# Altium integrated library LIFT_DRIVER.IntLib: 31 symbols
Pins are listed as number, name and electrical type; pins without a type are passive.

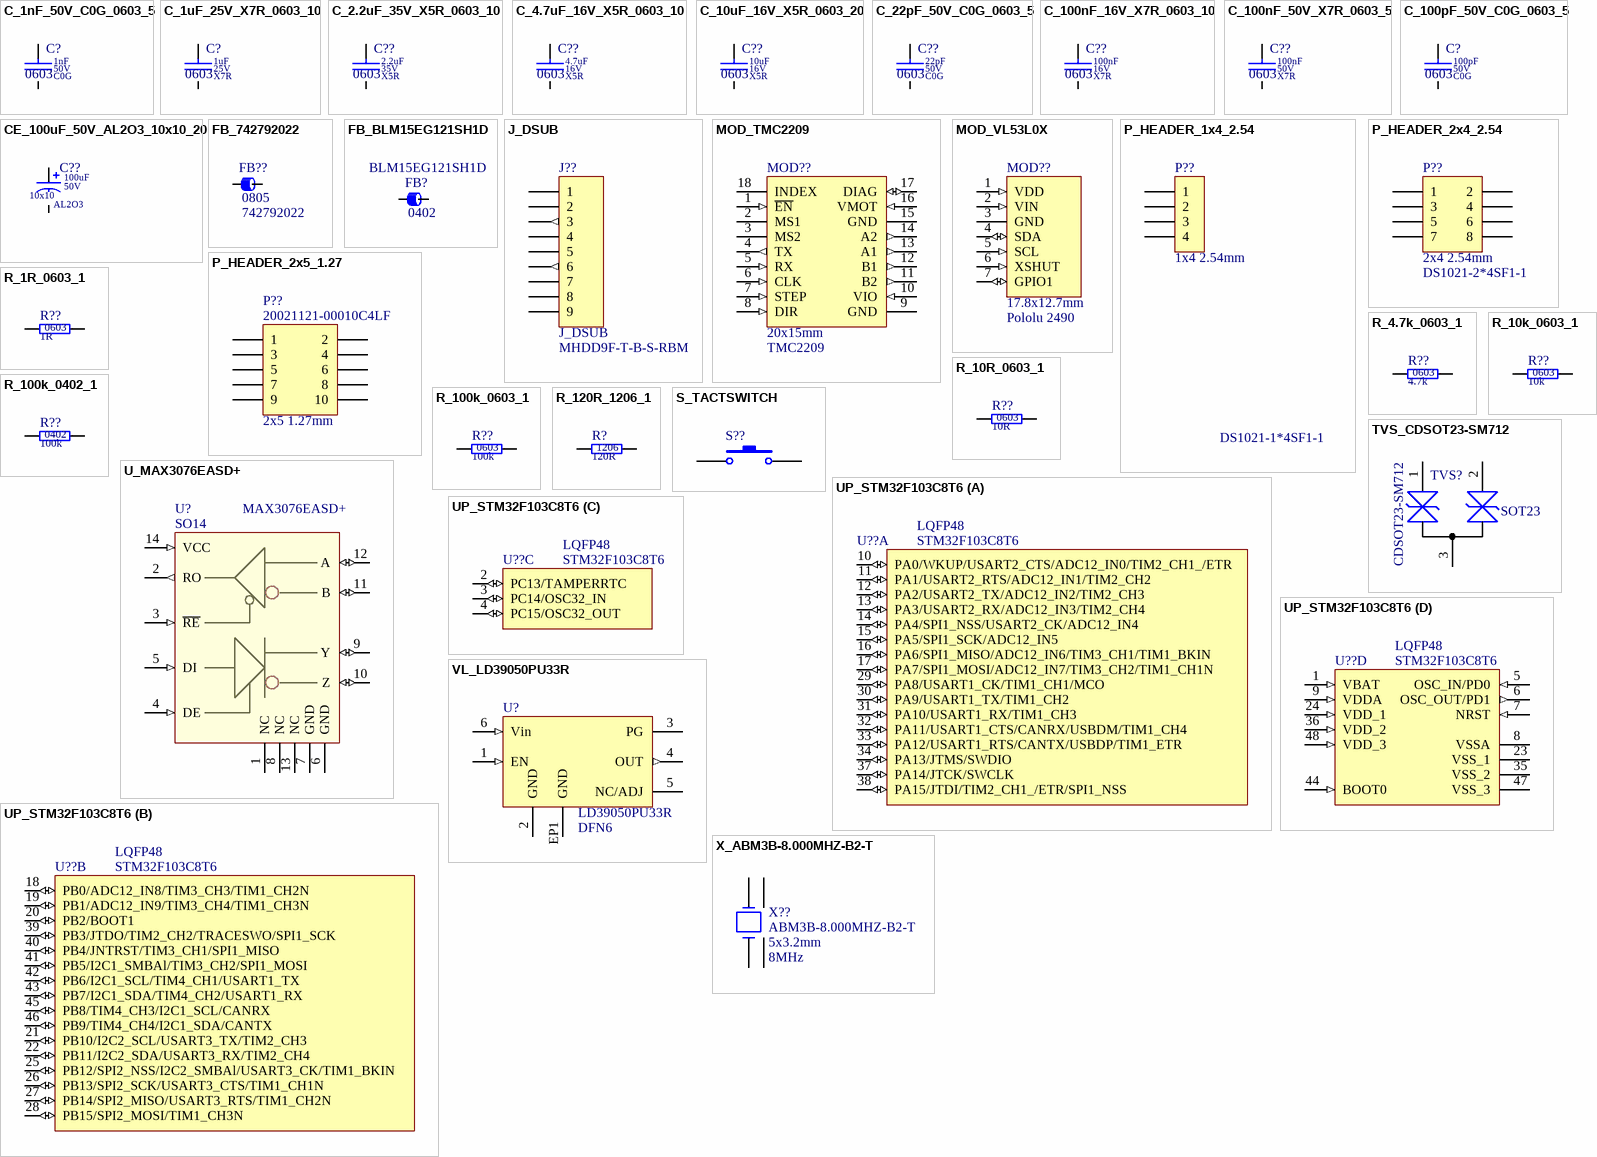
[diagram p0: symbols C_1nF_50V_C0G_0603_5 to X_ABM3B-8.000MHZ-B2-T]

## C_1nF_50V_C0G_0603_5
designator C?, comment value 1nF  Dielectric: C0G  Voltage: 50V  SCH_Footprint: 0603  (hidden comment: Ceramic C0G)
Capacitor; Part Number: C_1nF_50V_C0G_0603_5; Manufacturer: Samsung; Manufacturer Part Number: CL10C102JB8NNNC; Tolerance (%): 5; HelpURL: http://www.tme.eu/pl/Document/7da762c1dbaf553c64ad9c40d3603826/mlcc_samsung.pdf; Supplier 1: TME; Supplier Part Number 1: CL10C102JB8NNNC; Supplier 2: RS Components; Supplier 3: Farnell; Supplier 4: Mouser; Supplier 5: Digi-Key
footprint C_0603_1608
pins: 1, 2
3 alternate drawings of the same symbol

## C_1uF_25V_X7R_0603_10
designator C?, comment value 1uF  Dielectric: X7R  Voltage: 25V  SCH_Footprint: 0603  (hidden comment: Ceramic X7R)
Capacitor; Part Number: C_1uF_25V_X7R_0603_10; Manufacturer: Samsung; Manufacturer Part Number: CL10B105KA8NNNC; Tolerance (%): 10; HelpURL: http://www.tme.eu/pl/Document/4a42202b32dab16128fe107dd69598cc/samsung-chip-cap.pdf; Supplier 1: TME; Supplier Part Number 1: CL10B105KA8NNNC; Supplier 2: RS Components; Supplier 3: Farnell; Supplier 4: Mouser; Supplier 5: Digi-Key
footprint C_0603_1608
pins: 1, 2
3 alternate drawings of the same symbol

## C_2.2uF_35V_X5R_0603_10
designator C??, comment value 2.2uF  Dielectric: X5R  Voltage: 35V  SCH_Footprint: 0603  (hidden comment: Ceramic X5R)
Capacitor; Part Number: C_2.2uF_35V_X5R_0603_10; Manufacturer: Murata; Manufacturer Part Number: GRM188R6YA225KA12D; Tolerance (%): 10; HelpURL: https://datasheet.octopart.com/GRM188R6YA225KA12D-Murata-datasheet-66077095.pdf; Supplier 1: TME; Supplier 2: RS Components; Supplier Part Number 2: 8151358; Supplier 3: Farnell; Supplier Part Number 3: 2611926; Supplier 4: Mouser; Supplier Part Number 4: 81-GRM188R6YA225KA2D; Supplier 5: Digi-Key; Supplier Part Number 5: 490-7204-1-ND
footprint C_0603_1608
pins: 1, 2
3 alternate drawings of the same symbol

## C_4.7uF_16V_X5R_0603_10
designator C??, comment value 4.7uF  Dielectric: X5R  Voltage: 16V  SCH_Footprint: 0603  (hidden comment: Ceramic X5R)
Capacitor; Part Number: C_4.7uF_16V_X5R_0603_10; Manufacturer: Murata; Manufacturer Part Number: GRM188R61C475KAAJD; Tolerance (%): 10; HelpURL: https://datasheet.octopart.com/GRM188R61C475KAAJD-Murata-datasheet-66077093.pdf; Supplier 1: TME; Supplier 2: RS Components; Supplier Part Number 2: 884-7264P; Supplier 3: Farnell; Supplier Part Number 3: 2611924; Supplier 4: Mouser; Supplier Part Number 4: 81-GRM188R61C475KAJD; Supplier 5: Digi-Key; Supplier Part Number 5: 490-10481-2-ND
footprint C_0603_1608
pins: 1, 2
3 alternate drawings of the same symbol

## C_10uF_16V_X5R_0603_20
designator C??, comment value 10uF  Dielectric: X5R  Voltage: 16V  SCH_Footprint: 0603  (hidden comment: Ceramic X5R)
Capacitor; Part Number: C_10uF_16V_X5R_0603_20; Manufacturer: Samsung Electro-Mechanics; Manufacturer Part Number: CL10A106MO8NQNC; Tolerance (%): 20; HelpURL: http://www.tme.eu/pl/Document/4a42202b32dab16128fe107dd69598cc/samsung-chip-cap.pdf; Supplier 1: TME; Supplier Part Number 1: CL10A106MO8NQNC; Supplier 2: RS Components; Supplier 3: Farnell; Supplier 4: Mouser; Supplier 5: Digi-Key; Supplier 6: LCSC
footprint C_0603_1608
pins: 1, 2
3 alternate drawings of the same symbol

## C_22pF_50V_C0G_0603_5
designator C??, comment value 22pF  Dielectric: C0G  Voltage: 50V  SCH_Footprint: 0603  (hidden comment: Ceramic C0G)
Capacitor; Part Number: C_22pF_50V_C0G_0603_5; Manufacturer: AVX; Manufacturer Part Number: 06035A220JAT2A; Tolerance (%): 5; HelpURL: https://datasheet.octopart.com/06035A220JAT2A-AVX-datasheet-9883399.pdf; Supplier 1: TME; Supplier 2: RS Components; Supplier Part Number 2: 1349628; Supplier 3: Farnell; Supplier Part Number 3: 2280861; Supplier 4: Mouser; Supplier Part Number 4: 581-06035A220J; Supplier 5: Digi-Key; Supplier Part Number 5: 478-1167-1-ND
footprint C_0603_1608
pins: 1, 2
3 alternate drawings of the same symbol

## C_100nF_16V_X7R_0603_10
designator C??, comment value 100nF  Dielectric: X7R  Voltage: 16V  SCH_Footprint: 0603  (hidden comment: Ceramic X7R)
Capacitor; Part Number: C_100nF_16V_X7R_0603_10; Manufacturer: Kemet; Manufacturer Part Number: C0603C104K4RAC7013; Tolerance (%): 10; HelpURL: https://pl.mouser.com/datasheet/2/212/KEM_C1002_X7R_SMD-1102033.pdf; Supplier 1: TME; Supplier 2: RS Components; Supplier 3: Farnell; Supplier 4: Mouser; Supplier Part Number 4: 80-C0603C104K4RC7013; Supplier 5: Digi-Key; Supplier Part Number 5: 399-7372-2-ND; Supplier 6: LCSC
footprint C_0603_1608
pins: 1, 2
3 alternate drawings of the same symbol

## C_100nF_50V_X7R_0603_5
designator C??, comment value 100nF  Dielectric: X7R  Voltage: 50V  SCH_Footprint: 0603  (hidden comment: Ceramic X7R)
Capacitor; Part Number: C_100nF_50V_X7R_0603_5; Manufacturer: Samsung; Manufacturer Part Number: CL10B104JB8NNNC; Tolerance (%): 5; HelpURL: http://www.tme.eu/pl/Document/4a42202b32dab16128fe107dd69598cc/samsung-chip-cap.pdf; Supplier 1: TME; Supplier Part Number 1: CL10B104JB8NNNC; Supplier 2: RS Components; Supplier 3: Farnell; Supplier 4: Mouser; Supplier 5: Digi-Key
footprint C_0603_1608
pins: 1, 2
3 alternate drawings of the same symbol

## C_100pF_50V_C0G_0603_5
designator C?, comment value 100pF  Dielectric: C0G  Voltage: 50V  SCH_Footprint: 0603  (hidden comment: Ceramic C0G)
Capacitor; Part Number: C_100pF_50V_C0G_0603_5; Manufacturer: AVX; Manufacturer Part Number: 06035A101JAT2A; Tolerance (%): 5; HelpURL: http://www.tme.eu/pl/Document/28556c2a4dfa60995042b7f5f1edb9ed/AVX-C0G.pdf; Supplier 1: TME; Supplier Part Number 1: 06035A101JAT2A; Supplier 2: RS Components; Supplier 3: Farnell; Supplier 4: Mouser; Supplier 5: Digi-Key
footprint C_0603_1608
pins: 1, 2
3 alternate drawings of the same symbol

## CE_100uF_50V_AL2O3_10x10_20
designator C??, comment value 100uF  Dielectric: AL2O3  SCH_Footprint: 10x10  Voltage: 50V  (hidden comment: Electrolytic Capacitor)
Polarized Capacitor; Part Number: CE_100uF_50V_AL2O3_10x10_20; Manufacturer: Nichicon; Manufacturer Part Number: UUX1H101MNL1GS; Tolerance (%): 20; HelpURL: https://datasheet.octopart.com/UUX1H101MNL1GS-Nichicon-datasheet-62047998.pdf; Supplier 1: TME; Supplier Part Number 1: UUX1H101MNL1GS; Supplier 2: RS Components; Supplier Part Number 2: 739-3107; Supplier 3: Farnell; Supplier Part Number 3: 2841943; Supplier 4: Mouser; Supplier Part Number 4: 647-UUX1H101MNL1GS; Supplier 5: Digi-Key; Supplier Part Number 5: 493-6269-1-ND; Supplier 6: LCSC
footprint CE_D_10x10MM
pins: 1, 2
2 alternate drawings of the same symbol

## FB_742792022
designator FB??, comment value 742792022  SCH_Footprint: 0805  (hidden comment: Ferrite bead)
Part Number: FB_742792022; Manufacturer: Wurth; Current: 2A; Resistance: 50mR; HelpURL: http://www.farnell.com/datasheets/1919973.pdf?_ga=2.197269935.1851800069.1516124392-930414557.1508304960; Manufacturer Part Number: 742792022; Supplier 1: TME; Supplier 2: RS Components; Supplier 3: Farnell; Supplier Part Number 3: 1635733; Supplier 4: Mouser; Supplier 5: Digi-Key
footprint FB_0805_2012
pins: 1, 2
1 alternate drawing of the same symbol

## FB_BLM15EG121SH1D
designator FB?, comment SCH_Footprint: 0402  Manufacturer Part Number: BLM15EG121SH1D  (hidden comment: Ferrite bead)
Part Number: FB_BLM15EG121SH1D; Manufacturer: Murata; Current: 1.5A; Resistance: 95mR; Value: BLM15EG121SH1D; HelpURL: http://datasheet.octopart.com/BLM15EG121SH1D-Murata-datasheet-37129980.pdf; Supplier 1: TME; Supplier 2: RS Components; Supplier 3: Farnell; Supplier 4: Mouser; Supplier Part Number 4: 81-BLM15EG121SH1D; Supplier 5: Digi-Key; Supplier Part Number 5: 490-17344-1-ND
footprint FB_0402_1005
pins: 1, 2
1 alternate drawing of the same symbol

## J_DSUB
designator J??, comment value MHDD9F-T-B-S-RBM  SCH_Footprint: J_DSUB  (hidden comment: DSUB 9 Pin)
Header, 9-Pin; Part Number: J_DSUB; Component Type: Standard; HelpURL: https://www.tme.eu/Document/d24efe21bdaa08410b5ca50a678e1de1/MHDDXX-F-T-B-S-RBM.PDF; Manufacturer: -; Manufacturer Part Number: MHDD9F-T-B-S-RBM; Supplier 1: TME; Supplier Part Number 1: MHDD9F-T-B-S-RBM; Supplier 2: RS Components; Supplier 3: Farnell; Supplier Part Number 3: 2533067; Supplier 4: Mouser; Supplier 5: Digi-Key
footprint J_DSUB_MHDD9F-T-B-S-RBM
pins: 0 NC hidden, 1, 2, 3 (out), 4, 5, 6 (out), 7, 8, 9

## MOD_TMC2209
designator MOD??, comment value TMC2209  SCH_Footprint: 20x15mm  (hidden comment: The TMC2209 is an ultra-silent motor driver IC for two phase stepper motors.)
Part Number: MOD_TMC2209; Manufacturer: Trinamic; HelpURL: https://www.trinamic.com/fileadmin/assets/Products/ICs_Documents/TMC2209_Datasheet_V103.pdf; Manufacturer Part Number: TMC2209; Supplier 1: TME; Supplier 2: RS Components; Supplier 3: Farnell; Supplier Part Number 3: 3131532; Supplier 4: Mouser; Supplier Part Number 4: 700-TMC2209SILENTSTE; Supplier 5: Digi-Key; Supplier Part Number 5: 1460-1395-ND; Supplier 6: LCSC
footprint MOD_TMC2209
pins: 1 ~{EN} (in), 2 MS1, 3 MS2, 4 TX (out), 5 RX (in), 6 CLK (in), 7 STEP (in), 8 DIR (in), 9 GND (power), 10 VIO (in), 11 B2 (out), 12 B1 (out), 13 A1 (out), 14 A2 (out), 15 GND (power), 16 VMOT (in), 17 DIAG (io), 18 INDEX

## MOD_VL53L0X
designator MOD??, comment value Pololu 2490  SCH_Footprint: 17.8x12.7mm  (hidden comment: time-of-flight)
Pin Header; Part Number: MOD_VL53L0X; Manufacturer: Polulu; HelpURL: https://www.pololu.com/file/download/VL53L0X.pdf?file_id=0J1187; Manufacturer Part Number: Pololu 2490; Supplier 1: TME; Supplier 2: RS Components; Supplier 3: Farnell; Supplier 4: Mouser; Supplier 5: Digi-Key; Supplier 6: LCSC; Supplier 7: Botland; Supplier Part Number 7: PLL-07176
footprint MOD_VL53L0X
pins: 1 VDD (in), 2 VIN (in), 3 GND (power), 4 SDA (io), 5 SCL (in), 6 XSHUT (in), 7 GPIO1 (io)

## P_HEADER_1x4_2.54
designator P??, comment value DS1021-1*4SF1-1  SCH_Footprint: 1x4 2.54mm  (hidden comment: Goldpin)
Pin Header; Part Number: P_HEADER_1x4_2.54; Manufacturer: Connfly; HelpURL: http://datasheet.octopart.com/DS1021-1%2A4SF1-1-Connfly-datasheet-65537859.pdf; Manufacturer Part Number: DS1021-1*4SF1-1; Supplier 1: TME; Supplier Part Number 1: ZL201-04G; Supplier 2: RS Components; Supplier 3: Farnell; Supplier 4: Mouser; Supplier 5: Digi-Key; Supplier 6: LCSC
footprint P_HEADER_1x4_2.54
pins: 1, 2, 3, 4

## P_HEADER_2x4_2.54
designator P??, comment value DS1021-2*4SF1-1  SCH_Footprint: 2x4 2.54mm  (hidden comment: Goldpin male)
Pin Header; Part Number: P_HEADER_2x4_2.54; Manufacturer: Connfly; HelpURL: https://www.tme.eu/Document/cc301e58a5da78cb543a94b5a5b7f06a/DS1021.pdf; Manufacturer Part Number: DS1021-2*4SF1-1; Supplier 1: TME; Supplier Part Number 1: ZL202-8G; Supplier 2: RS Components; Supplier 3: Farnell; Supplier 4: Mouser; Supplier 5: Digi-Key; Supplier 6: LCSC
footprint P_HEADER_2x4_2.54
pins: 1, 2, 3, 4, 5, 6, 7, 8

## P_HEADER_2x5_1.27
designator P??, comment value 20021121-00010C4LF  SCH_Footprint: 2x5 1.27mm  (hidden comment: Jtag)
Header, 10-Pin, Dual row; Part Number: P_HEADER_2x5_1.27; Manufacturer: FCI; Component Type: Standard; HelpURL: http://www.mouser.com/catalog/645/usd/1591.pdf; Manufacturer Part Number: 20021121-00010C4LF; Supplier 1: TME; Supplier Part Number 1: 20021121-00010C4LF; Supplier 2: RS Components; Supplier Part Number 2: 794-4584; Supplier 3: Farnell; Supplier Part Number 3: 1865279; Supplier 4: Mouser; Supplier Part Number 4: 649-202112100010C4LF; Supplier 5: Digi-Key; Supplier Part Number 5: 609-3695-1-ND
footprint P_HEADER_2x5_1.27
pins: 1, 2, 3, 4, 5, 6, 7, 8, 9, 10

## R_1R_0603_1
designator R??, comment value 1R  SCH_Footprint: 0603  (hidden comment: Resistor)
Part Number: R_1R_0603_1; Manufacturer: Yageo; Manufacturer Part Number: RC0603FR-071RL; Voltage: 50V; Power: 100mW; Tolerance: 1%; HelpURL: http://www.tme.eu/en/Document/9fef8ccbb584e9f6a1c931cf356afd5c/PYu-RC0603_51_RoHS_L_4.pdf; Supplier 1: TME; Supplier Part Number 1: RC0603FR-071R; Supplier 2: RS Components; Supplier 3: Farnell; Supplier Part Number 3: 9238123; Supplier 4: Mouser; Supplier Part Number 4: 603-RC0603FR-071RL; Supplier 5: Digi-Key; Supplier Part Number 5: 311-1.00HRCT-ND
footprint R_0603_1608
pins: 1, 2
3 alternate drawings of the same symbol

## R_4.7k_0603_1
designator R??, comment value 4.7k  SCH_Footprint: 0603  (hidden comment: Resistor)
Part Number: R_4.7k_0603_1; Manufacturer: Yageo; Manufacturer Part Number: RC0603FR-074K7L; Voltage: 75V; Power: 100mW; Tolerance: 1%; HelpURL: http://www.farnell.com/datasheets/2167052.pdf?_ga=2.156163131.1690599162.1548417389-1379097396.1542296996&_gac=1.18389067.1547230258.Cj0KCQiAmuHhBRD0ARIsAFWyPwhX8HcvXnM3tA0ZBodZLzDIjH2ZxLpjT5LWo9bad_HPRbU8LfPq44UaAhEwEALw_wcB; Supplier 1: TME; Supplier Part Number 1: RC0603FR-074K7; Supplier 2: RS Components; Supplier 3: Farnell; Supplier Part Number 3: 9238565; Supplier 4: Mouser; Supplier Part Number 4: 603-RC0603FR-074K7L; Supplier 5: Digi-Key; Supplier Part Number 5: 311-4.70KHRCT-ND; Supplier 6: LCSC
footprint R_0603_1608
pins: 1, 2
3 alternate drawings of the same symbol

## R_10k_0603_1
designator R??, comment value 10k  SCH_Footprint: 0603  (hidden comment: Resistor)
Part Number: R_10k_0603_1; Manufacturer: Vishay; Manufacturer Part Number: CRCW060310K0FKTABC; Voltage: 75V; Power: 100mW; Tolerance: 1%; HelpURL: http://www.tme.eu/pl/Document/622e28308c06d160637f2b14751ba16b/Data%20Sheet%20CRCW_BCe3.pdf; Supplier 1: TME; Supplier Part Number 1: CRCW060310K0FKTABC; Supplier 2: RS Components; Supplier 3: Farnell; Supplier 4: Mouser; Supplier Part Number 4: 667-ERJ-3EKF1002V; Supplier 5: Digi-Key; Supplier Part Number 5: P10KGCT-ND
footprint R_0603_1608
pins: 1, 2
2 alternate drawings of the same symbol

## R_10R_0603_1
designator R??, comment value 10R  SCH_Footprint: 0603  (hidden comment: Resistor)
Part Number: R_10R_0603_1; Manufacturer: Royalohm; Manufacturer Part Number: 0603SAF100JT5E; Voltage: 50V; Power: 100mW; Tolerance: 1%; HelpURL: http://www.tme.eu/pl/Document/b315665a56acbc42df513c99b390ad98/ROYALOHM-THICKFILM.pdf; Supplier 1: TME; Supplier Part Number 1: SMD0603-10R-1%; Supplier 2: RS Components; Supplier 3: Farnell; Supplier 4: Mouser; Supplier 5: Digi-Key
footprint R_0603_1608
pins: 1, 2
2 alternate drawings of the same symbol

## R_100k_0402_1
designator R??, comment value 100k  SCH_Footprint: 0402  (hidden comment: Resistor)
Part Number: R_100k_0402_1; Manufacturer: Yageo; Manufacturer Part Number: RC0402FR-07100KL; Voltage: 50V; Power: 63mW; Tolerance: 1%; HelpURL: http://www.tme.eu/pl/Document/1a2bc76e2be68b3b1670068306778ce6/rc0402yageo.pdf; Supplier 1: TME; Supplier Part Number 1: RC0402FR-07100K; Supplier 2: RS Components; Supplier 3: Farnell; Supplier Part Number 3: 2131798; Supplier 4: Mouser; Supplier Part Number 4: 603-RC0402FR-07100KL; Supplier 5: Digi-Key; Supplier Part Number 5: 311-100KLRCT-ND
footprint R_0402_1005
pins: 1, 2
2 alternate drawings of the same symbol

## R_100k_0603_1
designator R??, comment value 100k  SCH_Footprint: 0603  (hidden comment: Resistor)
Part Number: R_100k_0603_1; Manufacturer: Royalohm; Manufacturer Part Number: 0603SAF1003T5E; Voltage: 50V; Power: 100mW; Tolerance: 1%; HelpURL: http://www.tme.eu/pl/Document/b315665a56acbc42df513c99b390ad98/ROYALOHM-THICKFILM.pdf; Supplier 1: TME; Supplier Part Number 1: SMD0603-100K-1%; Supplier 2: RS Components; Supplier 3: Farnell; Supplier 4: Mouser; Supplier Part Number 4: 667-ERJ-3EKF1003V; Supplier 5: Digi-Key; Supplier Part Number 5: P100KHCT-ND
footprint R_0603_1608
pins: 1, 2
2 alternate drawings of the same symbol

## R_120R_1206_1
designator R?, comment value 120R  SCH_Footprint: 1206  (hidden comment: Resistor)
Part Number: R_120R_1206_1; Manufacturer: Vishay; Manufacturer Part Number: CRCW1206120RFKEA; Voltage: 200V; Power: 250mW; Tolerance: 1%; HelpURL: http://www.farnell.com/datasheets/2310790.pdf; Supplier 1: TME; Supplier 2: RS Components; Supplier Part Number 2: 6791787; Supplier 3: Farnell; Supplier Part Number 3: 1653057; Supplier 4: Mouser; Supplier Part Number 4: 71-CRCW1206-120-E3; Supplier 5: Digi-Key; Supplier Part Number 5: 541-120FCT-ND
footprint R_1206_3216
pins: 1, 2
2 alternate drawings of the same symbol

## S_TACTSWITCH
designator S??, comment 3x6mm  (value not drawn)
Tact Switch; Part Number: S_TACTSWITCH; Manufacturer: Ninigi; Manufacturer Part Number: TACTM-34N-F; HelpURL: http://pl.ninigi.com/product/tactm-34n-f/pdf; Supplier 1: TME; Supplier Part Number 1: TACTM-34N-F; Supplier 2: RS Components; Supplier 3: Farnell; Supplier 4: Mouser; Supplier 5: Digi-Key
footprint S_TACTSWITCH3x6
pins: 1, 2

## TVS_CDSOT23-SM712
designator TVS?, comment value CDSOT23-SM712  SCH_Footprint: SOT23  (hidden comment: TVS double bidirectional)
Part Number: TVS_CDSOT23-SM712; Manufacturer: Bourns; Voltage: 12V; Current: 17A; HelpURL: https://datasheet.octopart.com/CDSOT23-SM712-Bourns-datasheet-13451680.pdf; Manufacturer Part Number: CDSOT23-SM712; Supplier 1: TME; Supplier 2: RS Components; Supplier Part Number 2: 7673728; Supplier 3: Farnell; Supplier Part Number 3: 1824869; Supplier 4: Mouser; Supplier Part Number 4: 652-CDSOT23-SM712; Supplier 5: Digi-Key; Supplier Part Number 5: CDSOT23-SM712CT-ND
footprint SOT23_N
pins: 1, 2, 3

## U_MAX3076EASD+
designator U?, comment value MAX3076EASD+  SCH_Footprint: SO14  (hidden comment: MAX3076 Series 16 Mbps 6 V Full Duplex SMT RS 485 Transceiver - SOIC-14)
RS-485/RS-422 Transceivers, +3.3V,  ±15kV ESD-Protected, Fail-Safe, Hot-Swap; Part Number: U_MAX3076EASD+; Manufacturer: Maxim Integrated; HelpURL: https://sigma.octopart.com/138901689/technical_drawing/Maxim-Integrated-MAX3076EASD%2B.pdf; Manufacturer Part Number: MAX3076EASD+; Supplier 1: TME; Supplier 2: RS Components; Supplier 3: Farnell; Supplier Part Number 3: 2511650; Supplier 4: Mouser; Supplier Part Number 4: 700-MAX3076EASD; Supplier 5: Digi-Key; Supplier Part Number 5: MAX3076EASD+-ND
footprint SOP14_SO14_SOIC14_4X9X18
pins: 1 NC, 2 RO (out), 3 ~{RE} (in), 4 DE (in), 5 DI (in), 6 GND (power), 7 GND (power), 8 NC, 9 Y (io), 10 Z (io), 11 B (io), 12 A (io), 13 NC, 14 VCC (in)

## UP_STM32F103C8T6
designator U??, comment SCH_Footprint: LQFP48  (hidden comment: STM32F103C8T6)
Part Number: UP_STM32F103C8T6; Manufacturer: STMicroelectronics; Value: STM32F103C8T6; HelpURL: https://datasheet.octopart.com/STM32F103C8T6-STMicroelectronics-datasheet-48026265.pdf; Manufacturer Part Number: STM32F103C8T6; Supplier 1: TME; Supplier Part Number 1: STM32F103C8T6; Supplier 2: RS Components; Supplier Part Number 2: 1023545; Supplier 3: Farnell; Supplier Part Number 3: 1447637; Supplier 4: Mouser; Supplier Part Number 4: 511-STM32F103C8T6; Supplier 5: Digi-Key; Supplier Part Number 5: 497-6063-ND; Supplier 6: LCSC
footprint LQFP48_7x7
part A pins: 10 PA0/WKUP/USART2_CTS/ADC12_IN0/TIM2_CH1_/ETR (io), 11 PA1/USART2_RTS/ADC12_IN1/TIM2_CH2 (io), 12 PA2/USART2_TX/ADC12_IN2/TIM2_CH3 (io), 13 PA3/USART2_RX/ADC12_IN3/TIM2_CH4 (io), 14 PA4/SPI1_NSS/USART2_CK/ADC12_IN4 (io), 15 PA5/SPI1_SCK/ADC12_IN5 (io), 16 PA6/SPI1_MISO/ADC12_IN6/TIM3_CH1/TIM1_BKIN (io), 17 PA7/SPI1_MOSI/ADC12_IN7/TIM3_CH2/TIM1_CH1N (io), 29 PA8/USART1_CK/TIM1_CH1/MCO (io), 30 PA9/USART1_TX/TIM1_CH2 (io), 31 PA10/USART1_RX/TIM1_CH3 (io), 32 PA11/USART1_CTS/CANRX/USBDM/TIM1_CH4 (io), 33 PA12/USART1_RTS/CANTX/USBDP/TIM1_ETR (io), 34 PA13/JTMS/SWDIO (io), 37 PA14/JTCK/SWCLK (io), 38 PA15/JTDI/TIM2_CH1_/ETR/SPI1_NSS (io)
part B pins: 18 PB0/ADC12_IN8/TIM3_CH3/TIM1_CH2N (io), 19 PB1/ADC12_IN9/TIM3_CH4/TIM1_CH3N (io), 20 PB2/BOOT1 (io), 21 PB10/I2C2_SCL/USART3_TX/TIM2_CH3 (io), 22 PB11/I2C2_SDA/USART3_RX/TIM2_CH4 (io), 25 PB12/SPI2_NSS/I2C2_SMBAl/USART3_CK/TIM1_BKIN (io), 26 PB13/SPI2_SCK/USART3_CTS/TIM1_CH1N (io), 27 PB14/SPI2_MISO/USART3_RTS/TIM1_CH2N (io), 28 PB15/SPI2_MOSI/TIM1_CH3N (io), 39 PB3/JTDO/TIM2_CH2/TRACESWO/SPI1_SCK (io), 40 PB4/JNTRST/TIM3_CH1/SPI1_MISO (io), 41 PB5/I2C1_SMBAl/TIM3_CH2/SPI1_MOSI (io), 42 PB6/I2C1_SCL/TIM4_CH1/USART1_TX (io), 43 PB7/I2C1_SDA/TIM4_CH2/USART1_RX (io), 45 PB8/TIM4_CH3/I2C1_SCL/CANRX (io), 46 PB9/TIM4_CH4/I2C1_SDA/CANTX (io)
part C pins: 2 PC13/TAMPERRTC (io), 3 PC14/OSC32_IN (io), 4 PC15/OSC32_OUT (io)
part D pins: 1 VBAT (in), 5 OSC_IN/PD0 (in), 6 OSC_OUT/PD1 (out), 7 NRST (in), 8 VSSA (power), 9 VDDA (in), 23 VSS_1 (power), 24 VDD_1 (in), 35 VSS_2 (power), 36 VDD_2 (in), 44 BOOT0 (in), 47 VSS_3 (power), 48 VDD_3 (in)

## VL_LD39050PU33R
designator U?, comment SCH_Footprint: DFN6  (hidden comment: LD39050PU33R)
Part Number: VL_LD39050PU33R; Manufacturer: STMicroelectronics; Voltage: 3.3V; Current: 500mA; Value: LD39050PU33R; HelpURL: https://www.tme.eu/pl/Document/062513da0f421ddb82a14a498f7bf1c8/LD39050.pdf; Manufacturer Part Number: LD39050PU33R; Supplier 1: TME; Supplier Part Number 1: LD39050PU33R; Supplier 2: RS Components; Supplier 3: Farnell; Supplier Part Number 3: 2762703; Supplier 4: Mouser; Supplier Part Number 4: 511-LD39050PU33R; Supplier 5: Digi-Key; Supplier Part Number 5: 497-8716-1-ND
footprint DFN6_3x3
pins: 1 EN (in), 2 GND (power), 3 PG, 4 OUT (out), 5 NC/ADJ, 6 Vin (in), EP1 GND (power)

## X_ABM3B-8.000MHZ-B2-T
designator X??, comment Manufacturer Part Number: ABM3B-8.000MHZ-B2-T  SCH_Footprint: 5x3.2mm  (hidden comment: 8MHz)
Part Number: X_ABM3B-8.000MHZ-B2-T; Manufacturer: Abracon; Value: 8MHz; HelpURL: https://datasheet.octopart.com/ABM3B-8.000MHZ-B2-T-Abracon-datasheet-12510201.pdf; Supplier 1: TME; Supplier Part Number 1: ABM3B-8.000MHZ-B2; Supplier 2: RS Components; Supplier Part Number 2: 171-0644; Supplier 3: Farnell; Supplier Part Number 3: 2467818; Supplier 4: Mouser; Supplier Part Number 4: 815-ABM3B-8.0-B2-T; Supplier 5: Digi-Key; Supplier Part Number 5: 535-9720-1-ND
footprint X_ABM3B_5X3X11
pins: 1, 2 GND (power), 3, 4 GND (power)